# EAGLE library part MC33074 (library 07-Retrocomputing)
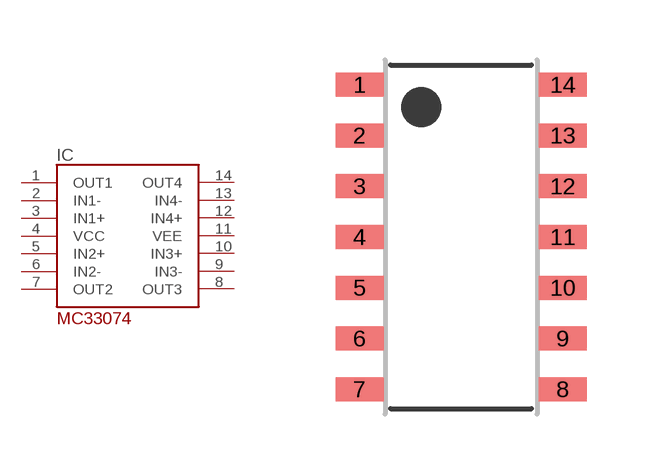
[diagram p18: symbol with the pads of SOIC14; footprint SOIC14]

Designator prefix IC

## MC33074  [SOIC14]
1  OUT1
2  IN1-
3  IN1+
4  VCC
5  IN2+
6  IN2-
7  OUT2
8  OUT3
9  IN3-
10  IN3+
11  VEE
12  IN4+
13  IN4-
14  OUT4

## Footprint SOIC14 (pad centres in mm)
smd 1.2 x 0.6: 1 -2.54,3.81; 2 -2.54,2.54; 3 -2.54,1.27; 4 -2.54,0; 5 -2.54,-1.27; 6 -2.54,-2.54; 7 -2.54,-3.81; 8 2.54,-3.81; 9 2.54,-2.54; 10 2.54,-1.27; 11 2.54,0; 12 2.54,1.27; 13 2.54,2.54; 14 2.54,3.81